# Altium schematic symbol library 10uF.SchLib: 1 symbol
Pins are listed as number, name and electrical type; pins without a type are passive.

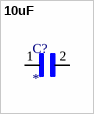
[diagram p0: symbol 10uF]

## 10uF
designator C?
SMD Capacitor X5R(EIA) with Capacitance: 10uF Tol. 20%. Rated Voltage: 25Vdc; MF: Murata; MP: GRM188R61E106MA73D; Value: *; Package: 1608 Murata; Price: None; Availability: Unavailable; SnapEDA_Link: https://www.snapeda.com/parts/GRM188R61E106MA73D/Murata/view-part/4379315/?ref=snap
footprint 10uF
pins: 1, 2